# EAGLE library part SN74CBT16211C (library toyotune)
The SN74CBT16211C is a high-speed TTL-compatible FET bus switch with low ON-state resistance, allowing for minimal propagation delay. Active Undershoot-Protection Circuitry on the A and B ports of the SN74CBT16211C provides protection for undershoot up to -2 V by sensing an undershoot event and ensuring that the switch remains in the proper OFF state. The SN74CBT16211C is organized as two 12-bit bus switches with separate output-enable (1OE, 2OE) inputs. It can be used as two 12-bit bus switches or as one 24-bit bus switch. When OE is low, the associated 12-bit bus switch is ON, and the A port is connected to the B port, allowing bidirectional data flow between ports. When OE is high, the associated 12-bit bus switch is OFF, and the high-impedance state exists between the A and B ports.
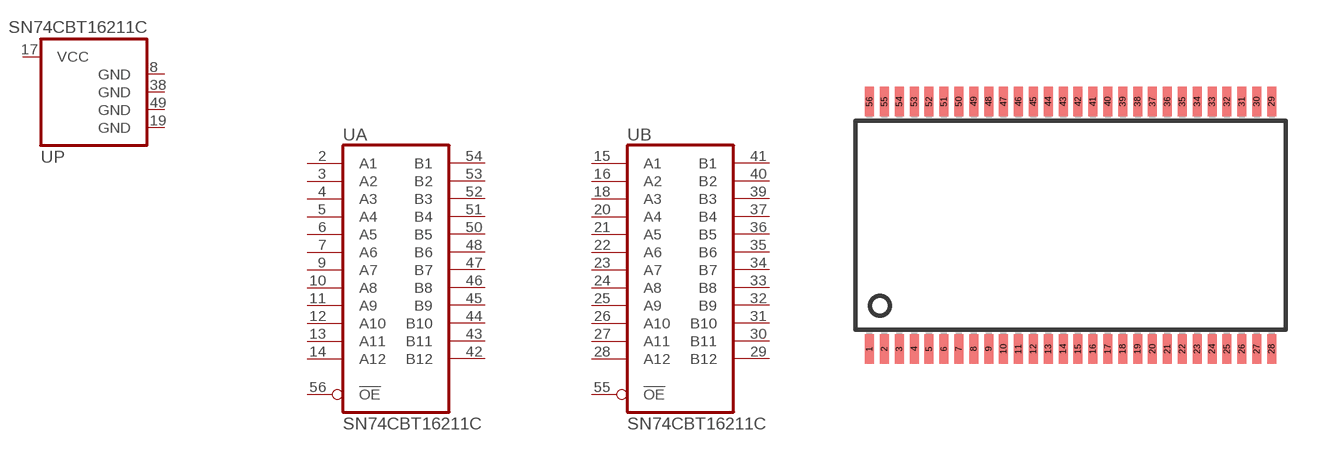
[diagram p17: symbol with the pads of DGG_R-PDSO-G56; footprint DGG_R-PDSO-G56]

Designator prefix -; gates A=SN74CBT16211 B=SN74CBT16211 P=SN74CBT16211_PWR

## SN74CBT16211CDGGR  [DGG_R-PDSO-G56]
2  A:A1
3  A:A2
4  A:A3
5  A:A4
6  A:A5
7  A:A6
8  P:GND  pwr
9  A:A7
10  A:A8
11  A:A9
12  A:A10
13  A:A11
14  A:A12
15  B:A1
16  B:A2
17  P:VCC  pwr
18  B:A3
19  P:GND  pwr
20  B:A4
21  B:A5
22  B:A6
23  B:A7
24  B:A8
25  B:A9
26  B:A10
27  B:A11
28  B:A12
29  B:B12
30  B:B11
31  B:B10
32  B:B9
33  B:B8
34  B:B7
35  B:B6
36  B:B5
37  B:B4
38  P:GND  pwr
39  B:B3
40  B:B2
41  B:B1
42  A:B12
43  A:B11
44  A:B10
45  A:B9
46  A:B8
47  A:B7
48  A:B6
49  P:GND  pwr
50  A:B5
51  A:B4
52  A:B3
53  A:B2
54  A:B1
55  B:!OE  in
56  A:!OE  in

## Footprint DGG_R-PDSO-G56 (pad centres in mm)
Shrink Small Outline Package
smd 0.3 x 1: 1 -6.7,-4.15; 2 -6.2,-4.15; 3 -5.7,-4.15; 4 -5.2,-4.15; 5 -4.7,-4.15; 6 -4.2,-4.15; 7 -3.7,-4.15; 8 -3.2,-4.15; 9 -2.7,-4.15; 10 -2.2,-4.15; 11 -1.7,-4.15; 12 -1.2,-4.15; 13 -0.7,-4.15; 14 -0.2,-4.15; 15 0.3,-4.15; 16 0.8,-4.15; 17 1.3,-4.15; 18 1.8,-4.15; 19 2.3,-4.15; 20 2.8,-4.15; 21 3.3,-4.15; 22 3.8,-4.15; 23 4.3,-4.15; 24 4.8,-4.15; 25 5.3,-4.15; 26 5.8,-4.15; 27 6.3,-4.15; 28 6.8,-4.15; 29 6.8,4.15; 30 6.3,4.15; 31 5.8,4.15; 32 5.3,4.15; 33 4.8,4.15; 34 4.3,4.15; 35 3.8,4.15; 36 3.3,4.15; 37 2.8,4.15; 38 2.3,4.15; 39 1.8,4.15; 40 1.3,4.15; 41 0.8,4.15; 42 0.3,4.15; 43 -0.2,4.15; 44 -0.7,4.15; 45 -1.2,4.15; 46 -1.7,4.15; 47 -2.2,4.15; 48 -2.7,4.15; 49 -3.2,4.15; 50 -3.7,4.15; 51 -4.2,4.15; 52 -4.7,4.15; 53 -5.2,4.15; 54 -5.7,4.15; 55 -6.2,4.15; 56 -6.7,4.15